# Altium schematic symbol library TexasInstruments_Custom.SchLib: 2 symbols
Pins are listed as number, name and electrical type; pins without a type are passive.

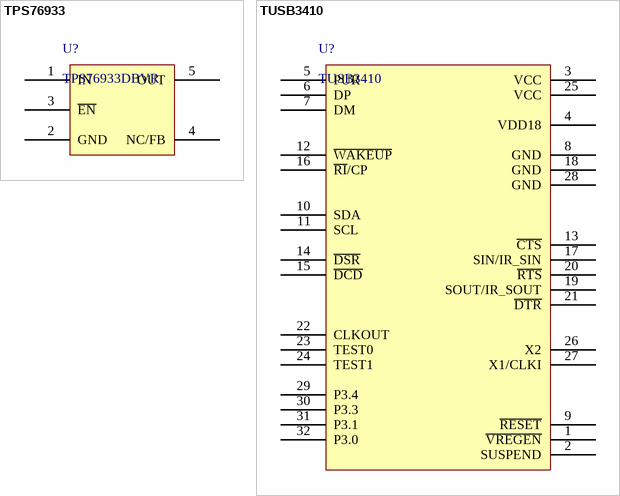
[diagram p0: symbols TPS76933 to TUSB3410]

## TPS76933
designator U?, comment TPS76933DBVR
footprint DBV005 (SOT-23/SC-74A; 5 Leads; Body 3 x 3 mm, inc. leads (LxW max))
pins: 1 IN, 2 GND, 3 ~{EN}, 4 NC/FB, 5 OUT

## TUSB3410
designator U?
footprint Quad32
pins: 1 ~{VREGEN}, 2 SUSPEND, 3 VCC, 4 VDD18, 5 PUR, 6 DP, 7 DM, 8 GND, 9 ~{RESET}, 10 SDA, 11 SCL, 12 ~{WAKEUP}, 13 ~{CTS}, 14 ~{DSR}, 15 ~{DCD}, 16 ~{RI}/CP, 17 SIN/IR_SIN, 18 GND, 19 SOUT/IR_SOUT, 20 ~{RTS}, 21 ~{DTR}, 22 CLKOUT, 23 TEST0, 24 TEST1, 25 VCC, 26 X2, 27 X1/CLKI, 28 GND, 29 P3.4, 30 P3.3, 31 P3.1, 32 P3.0